# EAGLE library part ESP32DEVKITV1 (library Daves)
My Version ESP32 Development board 36 pins
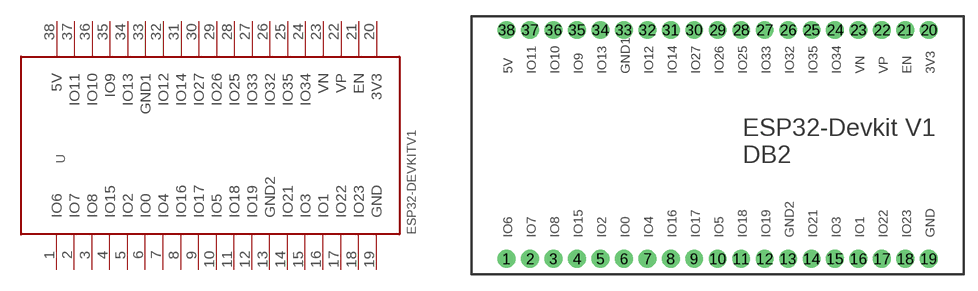
[diagram p0: symbol with the pads of ESP32-DEVKITV1; footprint ESP32-DEVKITV1]

Designator prefix -

## ESP32DEVKITV1DAVE  [ESP32-DEVKITV1]
1  IO6
2  IO7
3  IO8
4  IO15
5  IO2
6  IO0
7  IO4
8  IO16
9  IO17
10  IO5
11  IO18
12  IO19
13  GND2
14  IO21
15  IO3
16  IO1
17  IO22
18  IO23
19  GND
20  3V3
21  EN
22  VP
23  VN
24  IO34
25  IO35
26  IO32
27  IO33
28  IO25
29  IO26
30  IO27
31  IO14
32  IO12
33  GND1
34  IO13
35  IO9
36  IO10
37  IO11
38  5V

## Footprint ESP32-DEVKITV1 (pad centres in mm)
drill 1 pad 1.93: 1 -30.49,-13.54; 2 -27.95,-13.54; 3 -25.41,-13.54; 4 -22.87,-13.54; 5 -20.33,-13.54; 6 -17.79,-13.54; 7 -15.25,-13.54; 8 -12.71,-13.54; 9 -10.17,-13.54; 10 -7.63,-13.54; 11 -5.09,-13.54; 12 -2.55,-13.54; 13 -0.01,-13.54; 14 2.53,-13.54; 15 5.07,-13.54; 16 7.61,-13.54; 17 10.15,-13.54; 18 12.69,-13.54; 19 15.23,-13.54; 20 15.23,11.23; 21 12.69,11.23; 22 10.15,11.23; 23 7.61,11.23; 24 5.07,11.23; 25 2.53,11.23; 26 -0.01,11.23; 27 -2.55,11.23; 28 -5.09,11.23; 29 -7.63,11.23; 30 -10.17,11.23; 31 -12.71,11.23; 32 -15.25,11.23; 33 -17.79,11.23; 34 -20.33,11.23; 35 -22.87,11.23; 36 -25.41,11.23; 37 -27.95,11.23; 38 -30.49,11.23